# EAGLE library part LTC3706 (library PowerProducts)
Secondary-Side Foward Controller with PolyPhase Capability
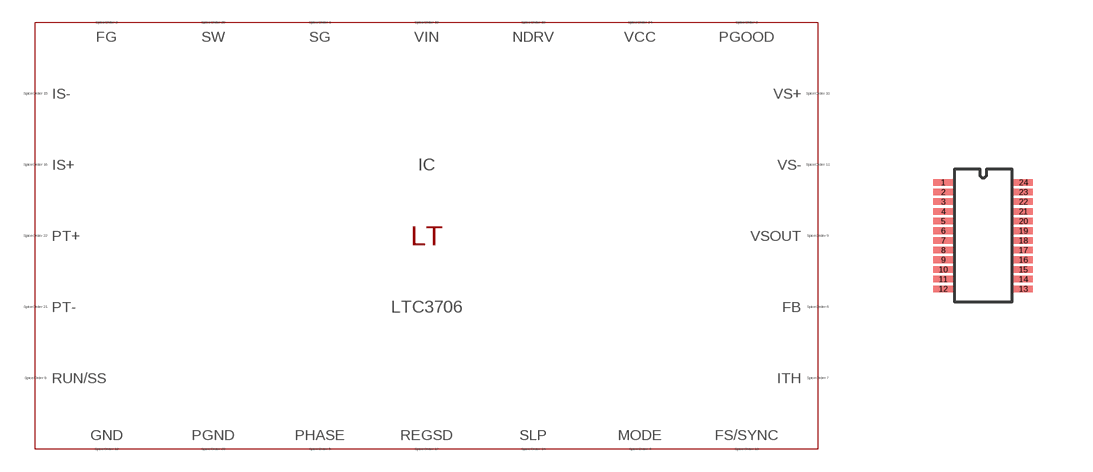
[diagram p285: symbol with the pads of SSOP24(GN); footprint SSOP24(GN)]

Designator prefix IC

## LTC3706 (SPICEMODEL: LTC3706.sub; SPICEPREFIX: X; VALUE2: LTC3706)  [SSOP24(GN)]
1  SG  pas
2  FG  pas
3  PGOOD  pas
4  MODE  pas
5  PHASE  pas
6  FB  pas
7  ITH  pas
8  RUN/SS  pas
9  VSOUT  pas
10  VS+  pas
11  VS-  pas
12  GND  pas
13  FS/SYNC  pas
14  SLP  pas
15  IS-  pas
16  IS+  pas
17  REGSD  pas
18  NDRV  pas
19  VIN  pas
20  SW  pas
21  PT-  pas
22  PT+  pas
23  PGND  pas
24  VCC  pas

## Footprint SSOP24(GN) (pad centres in mm)
Package generated from: SSOP24(GN).asc (!PADS-POWERPCB-V5.0-BASIC! DESIGN DATABASE ASCII FILE 1.0) with :import-pads-powerpcb-v5.ulp Version 1.0.1 at 04.10.2012 14:11:39
smd 0.484 x 0.165: 1 -1.002,1.331; 2 -1.002,1.089; 3 -1.002,0.847; 4 -1.002,0.605; 5 -1.002,0.363; 6 -1.002,0.121; 7 -1.002,-0.121; 8 -1.002,-0.363; 9 -1.002,-0.605; 10 -1.002,-0.847; 11 -1.002,-1.089; 12 -1.002,-1.331; 13 1.002,-1.331; 14 1.002,-1.089; 15 1.002,-0.847; 16 1.002,-0.605; 17 1.002,-0.363; 18 1.002,-0.121; 19 1.002,0.121; 20 1.002,0.363; 21 1.002,0.605; 22 1.002,0.847; 23 1.002,1.089; 24 1.002,1.331